# Altium integrated library embedi.IntLib: 1 symbol
Pins are listed as number, name and electrical type; pins without a type are passive.

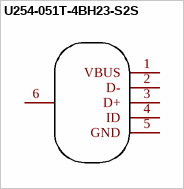
[diagram p0: symbol U254-051T-4BH23-S2S]

## U254-051T-4BH23-S2S
designator USB??  (value not drawn)
Manufacturer: XKB Connectivity(中国星坤); Symbol: U254-051T-4BH23-S2S_C482361; Add into BOM: yes; Connector Type: Micro-B; Gender: 母; Number of Ports: 1; Number of Contacts: 5P; Current Rating - Power (Max): 1.8A; Soldering Temperature(Max): 260℃; Device: U254-051T-4BH23-S2S; Supplier: LCSC; Supplier Part: C482361; Manufacturer Part: U254-051T-4BH23-S2S; JLCPCB Part Class: Extended Part; LCSC Part Name: Micro-B 母 卧贴; Supplier Footprint: SMD; Datasheet: https://atta.szlcsc.com/upload/public/pdf/source/20211011/BAA279962023C91D65D7E291D0BA8E57.pdf; Convert to PCB: yes; Standard: USB 2.0; Mounting Style: 卧贴; Contact Material: 铜合金; Contact Plating: 金; Operating Temperature Range: -40℃~+85℃
footprint MICRO-USB-SMD_U254-051T-4BH23-S2S
pins: 1 VBUS, 2 D-, 3 D+, 4 ID, 5 GND, 6 EH